# Altium integrated library T543B476M006ATW025.IntLib: 1 symbol
Pins are listed as number, name and electrical type; pins without a type are passive.

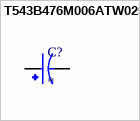
[diagram p0: symbol T543B476M006ATW025]

## T543B476M006ATW025
designator C?
CAP TANT POLY 47UF 6.3V 1411; MF: KEMET; MP: T543B476M006ATW025; SnapEDA_Link: https://www.snapeda.com/parts/T543B476M006ATW025/KEMET/view-part/?ref=snap; Package: SMD-2 Kemet; Value: *; Check_prices: https://www.snapeda.com/parts/T543B476M006ATW025/KEMET/view-part/?ref=eda
footprint CAPMP3528X210N
pins: 1, 2